# Altium schematic symbol library SCH - DRIVER - LED - TI LM3553SD.SchLib: 1 symbol
Pins are listed as number, name and electrical type; pins without a type are passive.

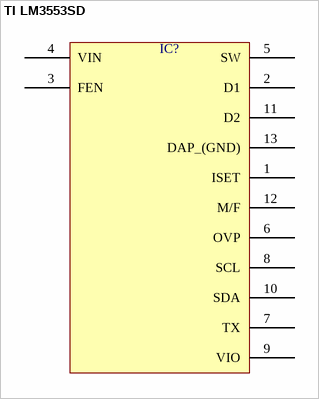
[diagram p0: symbol TI LM3553SD]

## TI LM3553SD
designator IC?  (value not drawn)
pins: 1 ISET, 2 D1, 3 FEN, 4 VIN, 5 SW, 6 OVP, 7 TX, 8 SCL, 9 VIO, 10 SDA, 11 D2, 12 M/F, 13 DAP_(GND)